# Altium footprint library SamacSys.PcbLib: 59 footprints (part 3 of 4)
Each footprint in its own frame and in the unit in brackets; x right, y up, seen from the top. Pads: shape width x height; smd on the part's side, far side on the other; paste and mask are expansions set on the pad; w line width, h text height; cw(c..) or ccw(c..) is an arc to the next point about the centre after c.
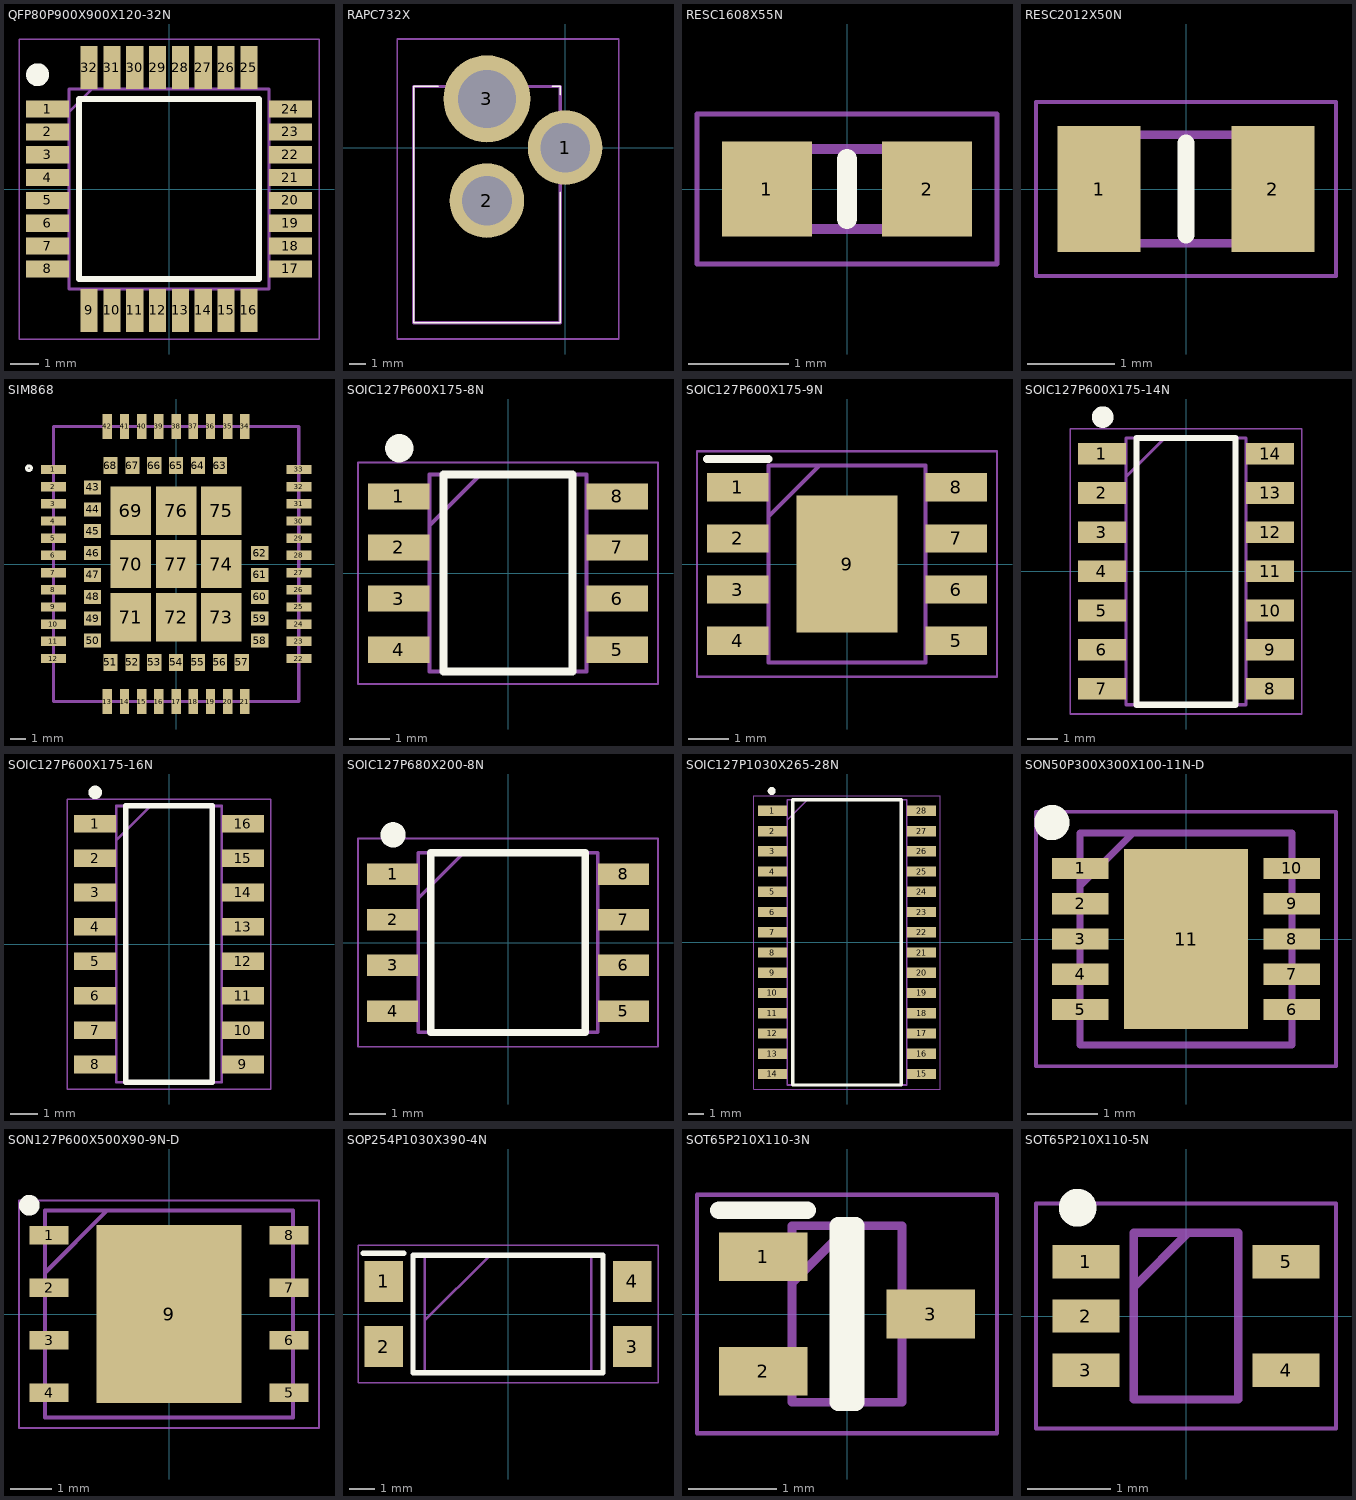
[diagram p2: the footprints below, top view; thin cyan lines are the x and y axes]

## QFP80P900X900X120-32N [mm]
pads (32):
  rect 1.5x0.6 smd: 1(-4.25,2.8) 2(-4.25,2) 3(-4.25,1.2) 4(-4.25,0.4) 5(-4.25,-0.4) 6(-4.25,-1.2) 7(-4.25,-2) 8(-4.25,-2.8) 17(4.25,-2.8) 18(4.25,-2) 19(4.25,-1.2) 20(4.25,-0.4) 21(4.25,0.4) 22(4.25,1.2) 23(4.25,2) 24(4.25,2.8)
  rect 0.6x1.5 smd: 9(-2.8,-4.25) 10(-2,-4.25) 11(-1.2,-4.25) 12(-0.4,-4.25) 13(0.4,-4.25) 14(1.2,-4.25) 15(2,-4.25) 16(2.8,-4.25) 25(2.8,4.25) 26(2,4.25) 27(1.2,4.25) 28(0.4,4.25) 29(-0.4,4.25) 30(-1.2,4.25) 31(-2,4.25) 32(-2.8,4.25)
Top Overlay:
  circle w0.4: c-4.6,4 r0.2
  lines w0.2: -3.15,-3.15 -3.15,3.15 3.15,3.15 3.15,-3.15 -3.15,-3.15
Mechanical 13:
  lines w0.1: -3.5,2.7 -2.7,3.5 ; -3.5,-3.5 -3.5,3.5 3.5,3.5 3.5,-3.5 -3.5,-3.5
Mechanical 15:
  lines w0.05: -5.25,-5.25 -5.25,5.25 5.25,5.25 5.25,-5.25 -5.25,-5.25
3D body "ATMEGA328P-AU.stp": height 1.2, standoff 0, extent -4.5,-4.5 4.5,4.5

## RAPC732X [mm]
pads (3):
  round 4.575 hole 3.05: 1(0,0) 2(-4.8,-3.25)
  round 5.34 hole 3.56: 3(-4.8,3)
Top Overlay:
  lines w0.1: -7.8,3.76 -9.3,3.76 -9.3,-10.74 -0.3,-10.74 -0.3,-2.74 ; -0.8,3.76 -0.3,3.76 -0.3,3.26
Mechanical 13:
  lines w0.2: -9.3,-10.74 -9.3,3.76 -0.3,3.76 -0.3,-10.74 -9.3,-10.74
Mechanical 15:
  lines w0.1: -10.3,-11.74 -10.3,6.67 3.288,6.67 3.288,-11.74 -10.3,-11.74
3D body "RAPC732X.stp": height 11.08, standoff -3.32, extent -9.27,-10.64 0.28,3.86

## RESC1608X55N [mm]
pads (2):
  rect 0.9x0.95 smd: 1(-0.8,0) 2(0.8,0)
Top Overlay:
  lines w0.2: 0,-0.3 0,0.3
Mechanical 13:
  lines w0.1: -0.8,-0.4 -0.8,0.4 0.8,0.4 0.8,-0.4 -0.8,-0.4
Mechanical 15:
  lines w0.05: -1.5,-0.75 -1.5,0.75 1.5,0.75 1.5,-0.75 -1.5,-0.75
3D body "CR0603-FX-1243ELF.stp": height 0.55, standoff 0, extent -0.8,-0.4 0.8,0.4

## RESC2012X50N [mm]
pads (2):
  rect 0.95x1.45 smd: 1(-1,0) 2(1,0)
Top Overlay:
  lines w0.2: 0,-0.525 0,0.525
Mechanical 13:
  lines w0.1: -1.025,-0.625 -1.025,0.625 1.025,0.625 1.025,-0.625 -1.025,-0.625
Mechanical 15:
  lines w0.05: -1.725,-1 -1.725,1 1.725,1 1.725,-1 -1.725,-1
3D body "CRCW08051R20JNEA.stp": height 0.5, standoff 0, extent -1.025,-0.625 1.025,0.625

## SIM868 [mm]
pads (77):
  rect 1.6x0.6 smd: 1(-7.85,6.05) 2(-7.85,4.95) 3(-7.85,3.85) 4(-7.85,2.75) 5(-7.85,1.65) 6(-7.85,0.55) 7(-7.85,-0.55) 8(-7.85,-1.65) 9(-7.85,-2.75) 10(-7.85,-3.85) 11(-7.85,-4.95) 12(-7.85,-6.05) 22(7.85,-6.05) 23(7.85,-4.95) 24(7.85,-3.85) 25(7.85,-2.75) 26(7.85,-1.65) 27(7.85,-0.55) 28(7.85,0.55) 29(7.85,1.65) 30(7.85,2.75) 31(7.85,3.85) 32(7.85,4.95) 33(7.85,6.05)
  rect 0.6x1.6 smd: 13(-4.4,-8.8) 14(-3.3,-8.8) 15(-2.2,-8.8) 16(-1.1,-8.8) 17(0,-8.8) 18(1.1,-8.8) 19(2.2,-8.8) 20(3.3,-8.8) 21(4.4,-8.8) 34(4.4,8.8) 35(3.3,8.8) 36(2.2,8.8) 37(1.1,8.8) 38(0,8.8) 39(-1.1,8.8) 40(-2.2,8.8) 41(-3.3,8.8) 42(-4.4,8.8)
  rect 1.1x0.9 smd: 43(-5.35,4.9) 44(-5.35,3.5) 45(-5.35,2.1) 46(-5.35,0.7) 47(-5.35,-0.7) 48(-5.35,-2.1) 49(-5.35,-3.5) 50(-5.35,-4.9) 58(5.35,-4.9) 59(5.35,-3.5) 60(5.35,-2.1) 61(5.35,-0.7) 62(5.35,0.7)
  rect 0.9x1.1 smd: 51(-4.2,-6.3) 52(-2.8,-6.3) 53(-1.4,-6.3) 54(0,-6.3) 55(1.4,-6.3) 56(2.8,-6.3) 57(4.2,-6.3) 63(2.8,6.3) 64(1.4,6.3) 65(0,6.3) 66(-1.4,6.3) 67(-2.8,6.3) 68(-4.2,6.3)
  rect 2.6x3.1 smd: 69(-2.9,3.4) 70(-2.9,0) 71(-2.9,-3.4) 72(0,-3.4) 73(2.9,-3.4) 74(2.9,0) 75(2.9,3.4) 76(0,3.4) 77(0,0)
Top Overlay:
  circle w0.2: c-9.417,6.132 r0.144
Mechanical 13:
  lines w0.2: -7.85,-8.8 -7.85,8.8 7.85,8.8 7.85,-8.8 -7.85,-8.8
3D body "SIM868.stp": height 2.3, standoff 0, extent -7.85,-8.8 7.85,8.8

## SOIC127P600X175-8N [mm]
pads (8):
  rect 1.525x0.65 smd: 1(-2.712,1.905) 2(-2.712,0.635) 3(-2.712,-0.635) 4(-2.712,-1.905) 5(2.712,-1.905) 6(2.712,-0.635) 7(2.712,0.635) 8(2.712,1.905)
Top Overlay:
  circle w0.5: c-2.7,3.1 r0.1
  lines w0.2: -1.6,-2.45 -1.6,2.45 1.6,2.45 1.6,-2.45 -1.6,-2.45
Mechanical 13:
  lines w0.1: -1.95,1.18 -0.68,2.45 ; -1.95,-2.45 -1.95,2.45 1.95,2.45 1.95,-2.45 -1.95,-2.45
Mechanical 15:
  lines w0.05: -3.725,-2.75 -3.725,2.75 3.725,2.75 3.725,-2.75 -3.725,-2.75
3D body "NE555DR.stp": height 1.75, standoff 0, extent -3,-2.45 3,2.45

## SOIC127P600X175-9N [mm]
pads (9):
  rect 1.525x0.7 smd: 1(-2.712,1.905) 2(-2.712,0.635) 3(-2.712,-0.635) 4(-2.712,-1.905) 5(2.712,-1.905) 6(2.712,-0.635) 7(2.712,0.635) 8(2.712,1.905)
  rect 2.513x3.402 smd: 9(0,0)
Top Overlay:
  lines w0.2: -3.475,2.605 -1.95,2.605
Mechanical 13:
  lines w0.1: -1.95,1.18 -0.68,2.45 ; -1.95,-2.45 -1.95,2.45 1.95,2.45 1.95,-2.45 -1.95,-2.45
Mechanical 15:
  lines w0.05: -3.725,-2.8 -3.725,2.8 3.725,2.8 3.725,-2.8 -3.725,-2.8
3D body "TP4056.stp": height 1.75, standoff 0, extent -3,-2.45 3,2.45

## SOIC127P600X175-14N [mm]
pads (14):
  rect 1.55x0.7 smd: 1(-2.725,3.81) 2(-2.725,2.54) 3(-2.725,1.27) 4(-2.725,0) 5(-2.725,-1.27) 6(-2.725,-2.54) 7(-2.725,-3.81) 8(2.725,-3.81) 9(2.725,-2.54) 10(2.725,-1.27) 11(2.725,0) 12(2.725,1.27) 13(2.725,2.54) 14(2.725,3.81)
Top Overlay:
  circle w0.5: c-2.7,5 r0.1
  lines w0.2: -1.6,-4.325 1.6,-4.325 1.6,4.325 -1.6,4.325 -1.6,-4.325
Mechanical 13:
  lines w0.1: -1.95,3.055 -0.68,4.325 ; -1.95,-4.325 1.95,-4.325 1.95,4.325 -1.95,4.325 -1.95,-4.325
Mechanical 15:
  lines w0.05: -3.75,-4.625 3.75,-4.625 3.75,4.625 -3.75,4.625 -3.75,-4.625
3D body "74HC04D,653.stp": height 1.56, standoff 0, extent -3,-4.312 3,4.338

## SOIC127P600X175-16N [mm]
pads (16):
  rect 1.55x0.65 smd: 1(-2.725,4.445) 2(-2.725,3.175) 3(-2.725,1.905) 4(-2.725,0.635) 5(-2.725,-0.635) 6(-2.725,-1.905) 7(-2.725,-3.175) 8(-2.725,-4.445) 9(2.725,-4.445) 10(2.725,-3.175) 11(2.725,-1.905) 12(2.725,-0.635) 13(2.725,0.635) 14(2.725,1.905) 15(2.725,3.175) 16(2.725,4.445)
Top Overlay:
  circle w0.25: c-2.725,5.6 r0.125
  lines w0.2: -1.6,-5.1 1.6,-5.1 1.6,5.1 -1.6,5.1 -1.6,-5.1
Mechanical 13:
  lines w0.1: -1.95,3.83 -0.68,5.1 ; -1.95,-5.1 1.95,-5.1 1.95,5.1 -1.95,5.1 -1.95,-5.1
Mechanical 15:
  lines w0.05: -3.75,-5.35 3.75,-5.35 3.75,5.35 -3.75,5.35 -3.75,-5.35
3D body "74HC4052D.stp": height 1.75, standoff 0, extent -3,-5.1 3,5.1

## SOIC127P680X200-8N [mm]
pads (8):
  rect 1.425x0.6 smd: 1(-3.212,1.905) 2(-3.212,0.635) 3(-3.212,-0.635) 4(-3.212,-1.905) 5(3.212,-1.905) 6(3.212,-0.635) 7(3.212,0.635) 8(3.212,1.905)
Top Overlay:
  circle w0.5: c-3.2,3 r0.1
  lines w0.2: -2.15,-2.5 2.15,-2.5 2.15,2.5 -2.15,2.5 -2.15,-2.5
Mechanical 13:
  lines w0.1: -2.5,1.23 -1.23,2.5 ; -2.5,-2.5 2.5,-2.5 2.5,2.5 -2.5,2.5 -2.5,-2.5
Mechanical 15:
  lines w0.05: -4.175,-2.9 4.175,-2.9 4.175,2.9 -4.175,2.9 -4.175,-2.9
3D body "NJM4558M.stp": height 2, standoff 0, extent -3.4,-2.5 3.4,2.5

## SOIC127P1030X265-28N [mm]
pads (28):
  rect 1.85x0.65 smd: 1(-4.675,8.255) 2(-4.675,6.985) 3(-4.675,5.715) 4(-4.675,4.445) 5(-4.675,3.175) 6(-4.675,1.905) 7(-4.675,0.635) 8(-4.675,-0.635) 9(-4.675,-1.905) 10(-4.675,-3.175) 11(-4.675,-4.445) 12(-4.675,-5.715) 13(-4.675,-6.985) 14(-4.675,-8.255) 15(4.675,-8.255) 16(4.675,-6.985) 17(4.675,-5.715) 18(4.675,-4.445) 19(4.675,-3.175) 20(4.675,-1.905) 21(4.675,-0.635) 22(4.675,0.635) 23(4.675,1.905) 24(4.675,3.175) 25(4.675,4.445) 26(4.675,5.715) 27(4.675,6.985) 28(4.675,8.255)
Top Overlay:
  circle w0.25: c-4.725,9.5 r0.125
  lines w0.2: -3.4,-8.95 -3.4,8.95 3.4,8.95 3.4,-8.95 -3.4,-8.95
Mechanical 13:
  lines w0.1: -3.75,7.68 -2.48,8.95 ; -3.75,-8.95 -3.75,8.95 3.75,8.95 3.75,-8.95 -3.75,-8.95
Mechanical 15:
  lines w0.05: -5.85,-9.2 -5.85,9.2 5.85,9.2 5.85,-9.2 -5.85,-9.2
3D body "PIC18F2523-I_SO.stp": height 2.65, standoff 0, extent -5.15,-8.95 5.15,8.95

## SON50P300X300X100-11N-D [mm]
pads (11):
  rect 0.8x0.3 smd: 1(-1.5,1) 2(-1.5,0.5) 3(-1.5,0) 4(-1.5,-0.5) 5(-1.5,-1) 6(1.5,-1) 7(1.5,-0.5) 8(1.5,0) 9(1.5,0.5) 10(1.5,1)
  rect 1.75x2.55 smd: 11(0,0)
Top Overlay:
  circle w0.25: c-1.9,1.65 r0.125
Mechanical 13:
  lines w0.1: -1.5,0.75 -0.75,1.5 ; -1.5,-1.5 -1.5,1.5 1.5,1.5 1.5,-1.5 -1.5,-1.5
Mechanical 15:
  lines w0.05: -2.125,-1.8 -2.125,1.8 2.125,1.8 2.125,-1.8 -2.125,-1.8
3D body "MP1907AGQ-P.stp": height 1, standoff 0, extent -1.55,-1.5 1.55,1.5

## SON127P600X500X90-9N-D [mm]
pads (9):
  rect 0.95x0.45 smd: 1(-2.9,1.905) 2(-2.9,0.635) 3(-2.9,-0.635) 4(-2.9,-1.905) 5(2.9,-1.905) 6(2.9,-0.635) 7(2.9,0.635) 8(2.9,1.905)
  rect 3.5x4.3 smd: 9(0,0)
Top Overlay:
  circle w0.25: c-3.375,2.63 r0.125
Mechanical 13:
  lines w0.1: -3,1 -1.5,2.5 ; -3,-2.5 -3,2.5 3,2.5 3,-2.5 -3,-2.5
Mechanical 15:
  lines w0.05: -3.625,-2.75 -3.625,2.75 3.625,2.75 3.625,-2.75 -3.625,-2.75
3D body "OC2321VQFN8XTMA1.stp": height 0.9, standoff 0, extent -3.05,-2.5 3.05,2.5

## SOP254P1030X390-4N [mm]
pads (4):
  rect 1.5x1.6 smd: 1(-4.85,1.27) 2(-4.85,-1.27) 3(4.85,-1.27) 4(4.85,1.27)
Top Overlay:
  lines w0.2: -5.65,2.37 -4.05,2.37 ; -3.7,-2.29 -3.7,2.29 3.7,2.29 3.7,-2.29 -3.7,-2.29
Mechanical 13:
  lines w0.1: -3.25,-0.25 -0.71,2.29 ; -3.25,-2.29 -3.25,2.29 3.25,2.29 3.25,-2.29 -3.25,-2.29
Mechanical 15:
  lines w0.05: -5.85,-2.69 -5.85,2.69 5.85,2.69 5.85,-2.69 -5.85,-2.69
3D body "EL817_S1__C__TU_.stp": height 3.9, standoff 0, extent -5.15,-2.29 5.15,2.29

## SOT65P210X110-3N [mm]
pads (3):
  rect 1x0.55 smd: 1(-0.95,0.65) 2(-0.95,-0.65) 3(0.95,0)
Top Overlay:
  lines w0.2: -1.45,1.175 -0.45,1.175 ; -0.1,-1 -0.1,1 0.1,1 0.1,-1 -0.1,-1
Mechanical 13:
  lines w0.1: -0.625,0.35 0.025,1 ; -0.625,-1 -0.625,1 0.625,1 0.625,-1 -0.625,-1
Mechanical 15:
  lines w0.05: -1.7,-1.35 -1.7,1.35 1.7,1.35 1.7,-1.35 -1.7,-1.35
3D body "BZX84W-C3V3F.stp": height 0.95, standoff 0, extent -1.052,-1.049 1.048,1.051

## SOT65P210X110-5N [mm]
pads (5):
  rect 0.8x0.4 smd: 1(-1.2,0.65) 2(-1.2,0) 3(-1.2,-0.65) 4(1.2,-0.65) 5(1.2,0.65)
Top Overlay:
  circle w0.254: c-1.3,1.3 r0.1
Mechanical 13:
  lines w0.1: -0.625,0.35 0.025,1 ; -0.625,-1 -0.625,1 0.625,1 0.625,-1 -0.625,-1
Mechanical 15:
  lines w0.05: -1.8,-1.35 -1.8,1.35 1.8,1.35 1.8,-1.35 -1.8,-1.35
3D body "ESDA6V1W5.stp": height 1.1, standoff 0, extent -1.05,-1 1.05,1